# EAGLE library part PINHD-1X10/1MM (library headers)
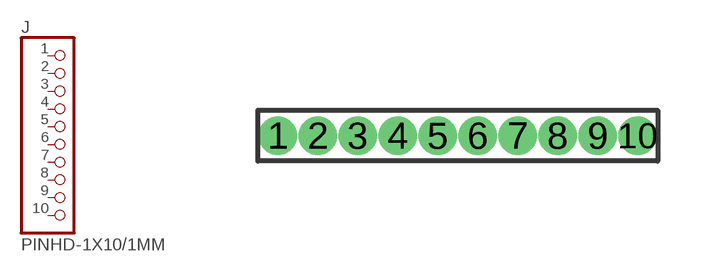
[diagram p8: symbol with the pads of 1X10/1MM; footprint 1X10/1MM]

Designator prefix J

## PINHD-1X10/1MM  [1X10/1MM]
1  1  pas
2  2  pas
3  3  pas
4  4  pas
5  5  pas
6  6  pas
7  7  pas
8  8  pas
9  9  pas
10  10  pas

## Footprint 1X10/1MM (pad centres in mm)
drill 0.45 pad 0.8: 1 -4.5,0; 2 -3.5,0; 3 -2.5,0; 4 -1.5,0; 5 -0.5,0; 6 0.5,0; 7 1.5,0; 8 2.5,0; 9 3.5,0; 10 4.5,0